# Altium schematic symbol library MOSFET N-CH IXFY36N20X3.SchLib: 1 symbol
Pins are listed as number, name and electrical type; pins without a type are passive.

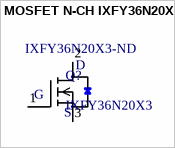
[diagram p0: symbol MOSFET N-CH IXFY36N20X3]

## MOSFET N-CH IXFY36N20X3
designator Q?, comment IXFY36N20X3  Supplier Part Number 1: IXFY36N20X3-ND
N-Channel 200 V 36A (Tc) 176W (Tc) Surface Mount TO-252AA; Supplier 1: Digi-Key
footprint DPAK (TO-252)
pins: 1 G, 2 D, 3 S